# Altium schematic symbol library 2024-02-03_23-24-37.SchLib: 1 symbol
Pins are listed as number, name and electrical type; pins without a type are passive.

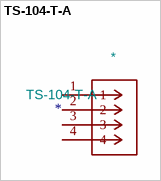
[diagram p0: symbol TS-104-T-A]

## TS-104-T-A
designator *  value TS-104-T-A
ki_fp_filters: CON4_1X4_TU_HTS_SAI; Footprint: CON4_1X4_TU_HTS_SAI; Supplier: TS-104-T-A; ki_keywords: TS-104-T-A
footprint CON4_1X4_TU_HTS_SAI
pins: 1, 2, 3, 4
1 alternate drawing of the same symbol